# Altium footprint library 0026013144.PcbLib: 1 footprints
Each footprint in its own frame and in the unit in brackets; x right, y up, seen from the top. Pads: shape width x height; smd on the part's side, far side on the other; paste and mask are expansions set on the pad; w line width, h text height; cw(c..) or ccw(c..) is an arc to the next point about the centre after c.
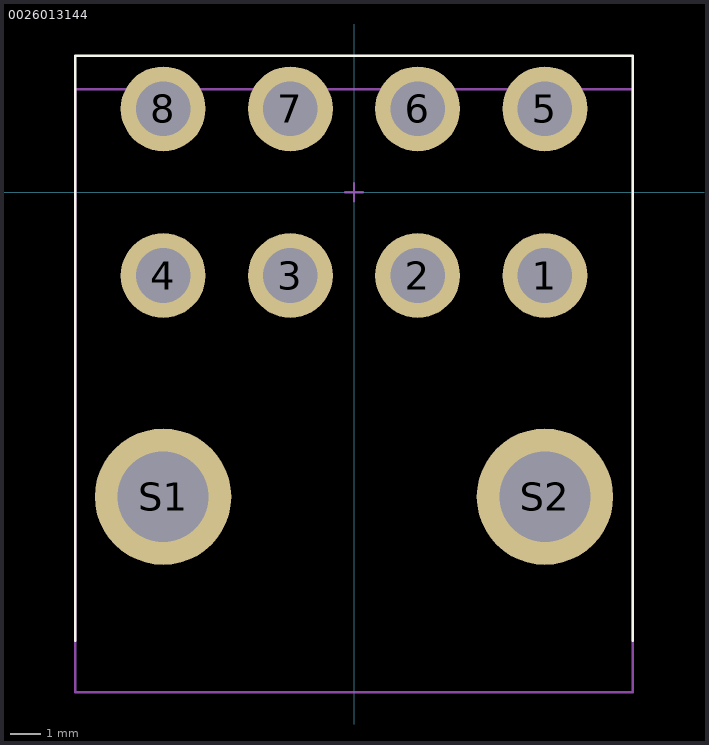
[diagram p0: the footprint, top view; thin cyan lines are the x and y axes]

## 0026013144 [mm]
height 11.2
pads (10):
  round 2.8 hole 1.8: 1(6.3,-2.75) 2(2.1,-2.75) 3(-2.1,-2.75) 4(-6.3,-2.75) 5(6.3,2.75) 6(2.1,2.75) 7(-2.1,2.75) 8(-6.3,2.75)
  round 4.5 hole 3: S1(-6.3,-10.05) S2(6.3,-10.05)
Top Overlay:
  lines w0.076: -9.2,-14.8 -9.2,3.4 -9.2,4.5 9.2,4.5 9.2,3.4 9.2,-14.8
Mechanical 1:
  lines w0.076: -9.2,-16.5 9.2,-16.5 9.2,3.4 -9.2,3.4 -9.2,-16.5
Mechanical 7:
  lines w0.076: -9.2,-16.5 9.2,-16.5
Mechanical 15:
  lines w0.076: -0.3,0 0,0 ; 0,-0.3 0,0 ; 0,0.3 0,0 ; 0.3,0 0,0
3D body "026013144.stp": height 11.4, standoff -3.6, extent -9.2,-16.5 9.2,3.435